# Altium footprint library ee_453_yourname.PcbLib: 29 footprints (part 2 of 2)
Each footprint in its own frame and in the unit in brackets; x right, y up, seen from the top. Pads: shape width x height; smd on the part's side, far side on the other; paste and mask are expansions set on the pad; w line width, h text height; cw(c..) or ccw(c..) is an arc to the next point about the centre after c.
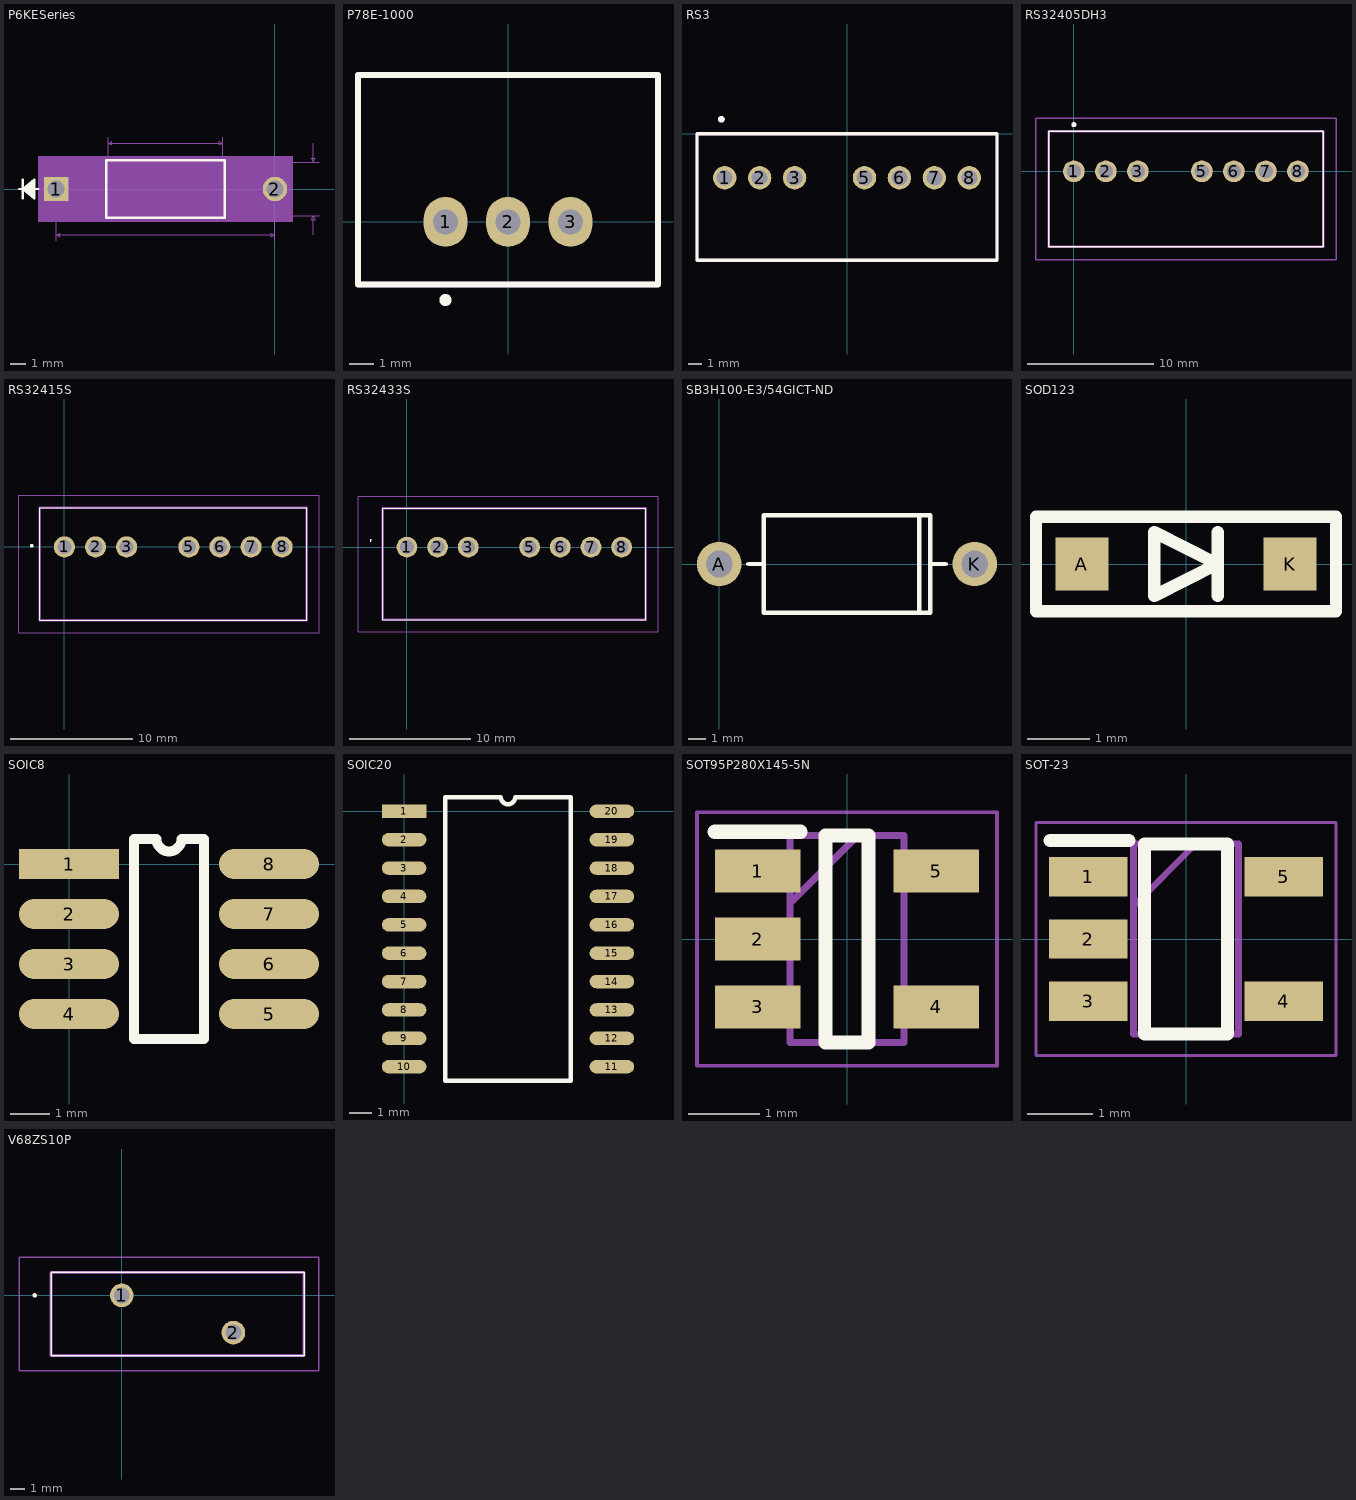
[diagram p1: the footprints below, top view; thin cyan lines are the x and y axes]

## P6KESeries [mil]
pads (2):
  rect 64x64 hole 44: 1(-572,0)
  round 64 hole 44: 2(0,0)
Top Overlay:
  lines w6: -669,0 -619,0 ; -659,-25 -659,25 ; -629,-20 -659,0 ; -629,-15 -659,0 ; -629,-10 -659,0 ; -629,-5 -659,0 ; -629,5 -659,0 ; -629,10 -659,0 ; -629,15 -659,0 ; -629,20 -659,0 ; -659,0 -629,-25 -629,25 -659,0 ; -441,-75 -441,75 -131,75 -131,-75 -441,-75
Mechanical 5:
  region: 47,-85 -619,-85 -619,85 47,85
Mechanical 7:
  lines w1: -572,-135 -572,0 ; -436,70 -436,135 ; -136,-70 115,-70 ; -136,135 -136,70 115,70 ; 0,-135 0,0 ; 100,-120 100,-70 ; 100,120 100,70 ; -572,-120 -562,-125 -562,-115 -572,-120 ; -572,-120 0,-120 ; -436,120 -426,115 -426,125 -436,120 ; -436,120 -136,120 ; -136,120 -146,115 -146,125 -136,120 ; 0,-120 -10,-125 -10,-115 0,-120 ; 100,-70 105,-80 95,-80 100,-70 ; 100,70 105,80 95,80 100,70
Mechanical 13:
  lines w1: -669,0 -619,0 ; -659,-25 -659,25 ; -629,-20 -659,0 ; -629,-15 -659,0 ; -629,-10 -659,0 ; -629,-5 -659,0 ; -629,5 -659,0 ; -629,10 -659,0 ; -629,15 -659,0 ; -629,20 -659,0 ; -572,0 -436,0 ; -136,0 0,0 ; -659,0 -629,-25 -629,25 -659,0 ; -436,-70 -436,70 -136,70 -136,-70 -436,-70
  text "0.3in/7.62mm" at -361,140 h25
  text "0.572in/14.529mm" at -386,-165 h25
  text "0.14in/3.556mm" at 120,-12.5 h25
Mechanical 15:
  region: -446,-42 -614,-42 -614,42 -446,42 -446,80 -126,80 -126,42 42,42 42,-42 -126,-42 -126,-80 -446,-80
  lines w6: -614,-42 -446,-42 -446,-80 -126,-80 -126,-42 42,-42 42,42 -126,42 -126,80 -446,80 -446,42 -614,42 -614,-42
3D body: height 50, standoff 0, extent -672,-135.5 115.5,135.5

## P78E-1000 [mil] "DC-DC Converter Family"
pads (3):
  oval 70x80 hole 40: 1(-100,0) 2(0,0) 3(100,0)
Top Overlay:
  circle w10: c-100,-125 r4.75
  lines w10: -240,-100 240,-100 240,235 -240,235 -240,-100
Mechanical 13:
  lines w10: -240,-100 -240,235 240,235 240,-100 -240,-100
3D body: height 50, standoff 0, extent -245,-134.75 245,240

## RS3 [mm]
pads (7):
  round 1.7 hole 1.15: 1(-8.89,-3.2) 2(-6.35,-3.2) 3(-3.81,-3.2) 5(1.27,-3.2) 6(3.81,-3.2) 7(6.35,-3.2) 8(8.89,-3.2)
Top Overlay:
  circle w0.254: c-9.131,1.045 r0.121
  lines w0.254: -10.9,-9.2 10.9,-9.2 10.9,0 -10.9,0 -10.9,-9.2
Mechanical 13:
  lines w0.254: -10.9,-9.2 -10.9,0 10.9,0 10.9,-9.2 -10.9,-9.2
3D body: height 1.27, standoff 0, extent -11.027,-9.327 11.027,1.293

## RS32405DH3 [mm]
pads (7):
  round 1.725 hole 1.15: 1(0,0) 2(2.54,0) 3(5.08,0) 5(10.16,0) 6(12.7,0) 7(15.24,0) 8(17.78,0)
Top Overlay:
  lines w0.1: -2,-6 -2,3.2 19.8,3.2 19.8,-6 -2,-6
  lines w0.2: 0,3.6 cw(c0,3.7) 0,3.8 cw(c0,3.7) 0,3.6
Mechanical 13:
  lines w0.2: -2,-6 -2,3.2 19.8,3.2 19.8,-6 -2,-6
Mechanical 15:
  lines w0.1: -3,-7 -3,4.2 20.8,4.2 20.8,-7 -3,-7
3D body: height 1.27, standoff 0, extent -3.05,-7.05 20.85,4.25

## RS32415S [mm]
pads (7):
  round 1.725 hole 1.15: 1(0,0) 2(2.54,0) 3(5.08,0) 5(10.16,0) 6(12.7,0) 7(15.24,0) 8(17.78,0)
Top Overlay:
  lines w0.1: -2.01,-6 19.79,-6 19.79,3.2 -2.01,3.2 -2.01,-6
  lines w0.2: -2.71,0.1 cw(c-2.66,0.1) -2.61,0.1 cw(c-2.66,0.1) -2.71,0.1
Mechanical 13:
  lines w0.2: -2.01,-6 19.79,-6 19.79,3.2 -2.01,3.2 -2.01,-6
Mechanical 15:
  lines w0.1: -3.71,-7 20.79,-7 20.79,4.2 -3.71,4.2 -3.71,-7
3D body: height 1.27, standoff 0, extent -3.76,-7.05 20.84,4.25

## RS32433S [mm]
pads (7):
  round 1.725 hole 1.15: 1(0,0) 2(2.54,0) 3(5.08,0) 5(10.16,0) 6(12.7,0) 7(15.24,0) 8(17.78,0)
Top Overlay:
  lines w0.1: -3,0.5 ccw(c-3,0.55) -3,0.6 ccw(c-3,0.55) -3,0.5 ; -2.01,-6 19.79,-6 19.79,3.2 -2.01,3.2 -2.01,-6
Mechanical 13:
  lines w0.2: -2.01,-6 19.79,-6 19.79,3.2 -2.01,3.2 -2.01,-6
Mechanical 15:
  lines w0.1: -4.05,-7 20.79,-7 20.79,4.2 -4.05,4.2 -4.05,-7
3D body: height 1.27, standoff 0, extent -4.1,-7.05 20.84,4.25

## SB3H100-E3/54GICT-ND [mil]
pads (2):
  round 100 hole 60: A(0,0) K(575,0)
Top Overlay:
  lines w10: 65,0 100,0 ; 450,-110 450,110 ; 475,0 510,0 ; 100,-110 100,110 475,110 475,-110 100,-110

## SOD123 [mm]
pads (2):
  rect 0.85x0.85 smd: A(-1.675,0) K(1.675,0)
Top Overlay:
  lines w0.2: -2.413,-0.762 2.413,-0.762 2.413,0.762 -2.413,0.762 -2.413,0 -2.413,-0.762
  lines w0.203: 0.508,-0.508 0.508,0.508 ; -0.508,-0.508 -0.508,0.508 0.508,0 -0.508,-0.508

## SOIC8 [mil]
pads (8):
  rect 100x30 smd: 1(0,0)
  oval 100x30 smd: 2(0,-50) 3(0,-100) 4(0,-150) 5(200,-150) 6(200,-100) 7(200,-50) 8(200,0)
Top Overlay:
  lines w10: 65,-175 135,-175 135,25 112.5,25 cw(c100,25) 87.5,25 65,25 65,-175

## SOIC20 [mm]
pads (20):
  rect 2x0.6 smd: 1(0,0)
  oval 2x0.6 smd: 2(0,-1.27) 3(0,-2.54) 4(0,-3.81) 5(0,-5.08) 6(0,-6.35) 7(0,-7.62) 8(0,-8.89) 9(0,-10.16) 10(0,-11.43) 11(9.3,-11.43) 12(9.3,-10.16) 13(9.3,-8.89) 14(9.3,-7.62) 15(9.3,-6.35) 16(9.3,-5.08) 17(9.3,-3.81) 18(9.3,-2.54) 19(9.3,-1.27) 20(9.3,0)
Top Overlay:
  lines w0.2: 1.835,-12.065 7.465,-12.065 7.465,0.635 4.967,0.635 cw(c4.65,0.635) 4.332,0.635 1.835,0.635 1.835,-12.065

## SOT95P280X145-5N [mm]
pads (5):
  rect 1.2x0.6 smd: 1(-1.25,0.95) 2(-1.25,0) 3(-1.25,-0.95) 4(1.25,-0.95) 5(1.25,0.95)
Top Overlay:
  lines w0.2: -1.85,1.5 -0.65,1.5 ; -0.3,-1.45 0.3,-1.45 0.3,1.45 -0.3,1.45 -0.3,-1.45
Mechanical 13:
  lines w0.1: -0.8,0.5 0.15,1.45 ; -0.8,-1.45 0.8,-1.45 0.8,1.45 -0.8,1.45 -0.8,-1.45
Mechanical 15:
  lines w0.05: -2.1,-1.775 2.1,-1.775 2.1,1.775 -2.1,1.775 -2.1,-1.775
3D body: height 1.27, standoff 0, extent -2.125,-1.8 2.125,1.8

## SOT-23 [mm]
pads (5):
  rect 1.2x0.6 smd: 1(-1.488,0.95) 2(-1.488,0) 3(-1.488,-0.95) 4(1.488,-0.95) 5(1.488,0.95)
Top Overlay:
  lines w0.2: -2.068,1.5 -0.868,1.5 ; -0.635,-1.45 -0.635,1.45 0.635,1.45 0.635,-1.45 -0.635,-1.45
Mechanical 13:
  lines w0.1: -0.8,0.5 0.15,1.45 ; -0.8,-1.45 -0.8,1.45 0.8,1.45 0.8,-1.45 -0.8,-1.45
Mechanical 15:
  lines w0.05: -2.286,-1.775 -2.286,1.775 2.286,1.775 2.286,-1.775 -2.286,-1.775
3D body: height 1.27, standoff 0, extent -2.311,-1.8 2.311,1.8

## V68ZS10P [mm]
pads (2):
  round 1.59 hole 1.06: 1(0,0) 2(7.5,-2.5)
Top Overlay:
  lines w0.1: -4.75,-4.05 -4.75,1.55 12.25,1.55 12.25,-4.05 -4.75,-4.05
  lines w0.2: -5.9,0 ccw(c-5.85,0) -5.8,0 ; -5.9,0 cw(c-5.85,0) -5.8,0 ; -5.9,0 ccw(c-5.85,0) -5.8,0
Mechanical 13:
  lines w0.2: -4.75,-4.05 -4.75,1.55 12.25,1.55 12.25,-4.05 -4.75,-4.05
Mechanical 15:
  lines w0.1: -6.9,-5.05 -6.9,2.55 13.25,2.55 13.25,-5.05 -6.9,-5.05
3D body: height 1.27, standoff 0, extent -6.95,-5.1 13.3,2.6